# EAGLE library part AK4101 (library akm)
Digital Audio Transmitter (DIT) Quad Output, 24-Bit, 192 kHz
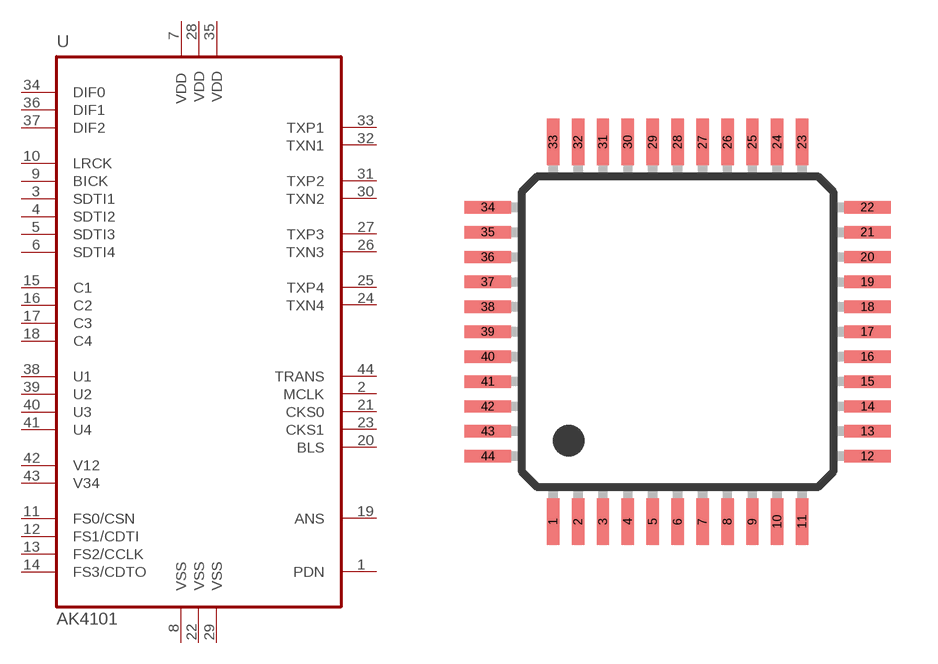
[diagram p2: symbol with the pads of LQFP44; footprint LQFP44]

Designator prefix U

## AK4101AV  [LQFP44]
1  PDN
2  MCLK
3  SDTI1
4  SDTI2
5  SDTI3
6  SDTI4
7  VDD
8  VSS
9  BICK
10  LRCK
11  FS0/CSN
12  FS1/CDTI
13  FS2/CCLK
14  FS3/CDTO
15  C1
16  C2
17  C3
18  C4
19  ANS
20  BLS
21  CKS0
22  VSS1
23  CKS1
24  TXN4
25  TXP4
26  TXN3
27  TXP3
28  VDD1
29  VSS2
30  TXN2
31  TXP2
32  TXN1
33  TXP1
34  DIF0
35  VDD2
36  DIF1
37  DIF2
38  U1
39  U2
40  U3
41  U4
42  V12
43  V34
44  TRANS

## Footprint LQFP44 (pad centres in mm)
LQFP44
smd 0.4 x 1.5: 1 -4,-6.1; 2 -3.2,-6.1; 3 -2.4,-6.1; 4 -1.6,-6.1; 5 -0.8,-6.1; 6 0,-6.1; 7 0.8,-6.1; 8 1.6,-6.1; 9 2.4,-6.1; 10 3.2,-6.1; 11 4,-6.1; 23 4,6.1; 24 3.2,6.1; 25 2.4,6.1; 26 1.6,6.1; 27 0.8,6.1; 28 0,6.1; 29 -0.8,6.1; 30 -1.6,6.1; 31 -2.4,6.1; 32 -3.2,6.1; 33 -4,6.1
smd 1.5 x 0.4: 12 6.1,-4; 13 6.1,-3.2; 14 6.1,-2.4; 15 6.1,-1.6; 16 6.1,-0.8; 17 6.1,0; 18 6.1,0.8; 19 6.1,1.6; 20 6.1,2.4; 21 6.1,3.2; 22 6.1,4; 34 -6.1,4; 35 -6.1,3.2; 36 -6.1,2.4; 37 -6.1,1.6; 38 -6.1,0.8; 39 -6.1,0; 40 -6.1,-0.8; 41 -6.1,-1.6; 42 -6.1,-2.4; 43 -6.1,-3.2; 44 -6.1,-4